# EAGLE library part WH1602D (library lcd-char)
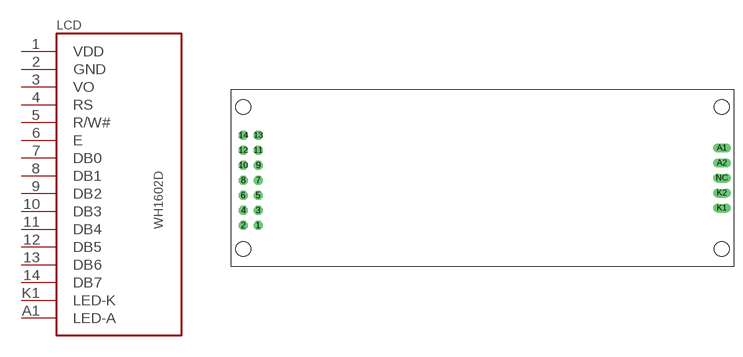
[diagram p1: symbol with the pads of WH1602D; footprint WH1602D]

Designator prefix LCD

## WH1602D  [WH1602D]
1  VDD  pwr
2  GND  pwr
3  VO  pas
4  RS  in
5  R/W#  in
6  E  in
7  DB0
8  DB1
9  DB2
10  DB3
11  DB4
12  DB5
13  DB6
14  DB7
A1  LED-A  pas
K1  LED-K  pas

## Footprint WH1602D (pad centres in mm)
drill 1 octagon: 1 -37.96,-8.02; 2 -40.5,-8.02; 3 -37.96,-5.48; 4 -40.5,-5.48; 5 -37.96,-2.94; 6 -40.5,-2.94; 7 -37.96,-0.4; 8 -40.5,-0.4; 9 -37.96,2.14; 10 -40.5,2.14; 11 -37.96,4.68; 12 -40.5,4.68; 13 -37.96,7.22; 14 -40.5,7.22
drill 1 long: A1 40.5,5.08; A2 40.5,2.54; K1 40.5,-5.08; K2 40.5,-2.54; NC 40.5,0
hole 2.5 at -40.5,12
hole 2.5 at -40.5,-12
hole 2.5 at 40.5,12
hole 2.5 at 40.5,-12